# Altium schematic symbol library memory_sram.SchLib: 19 symbols
Pins are listed as number, name and electrical type; pins without a type are passive.

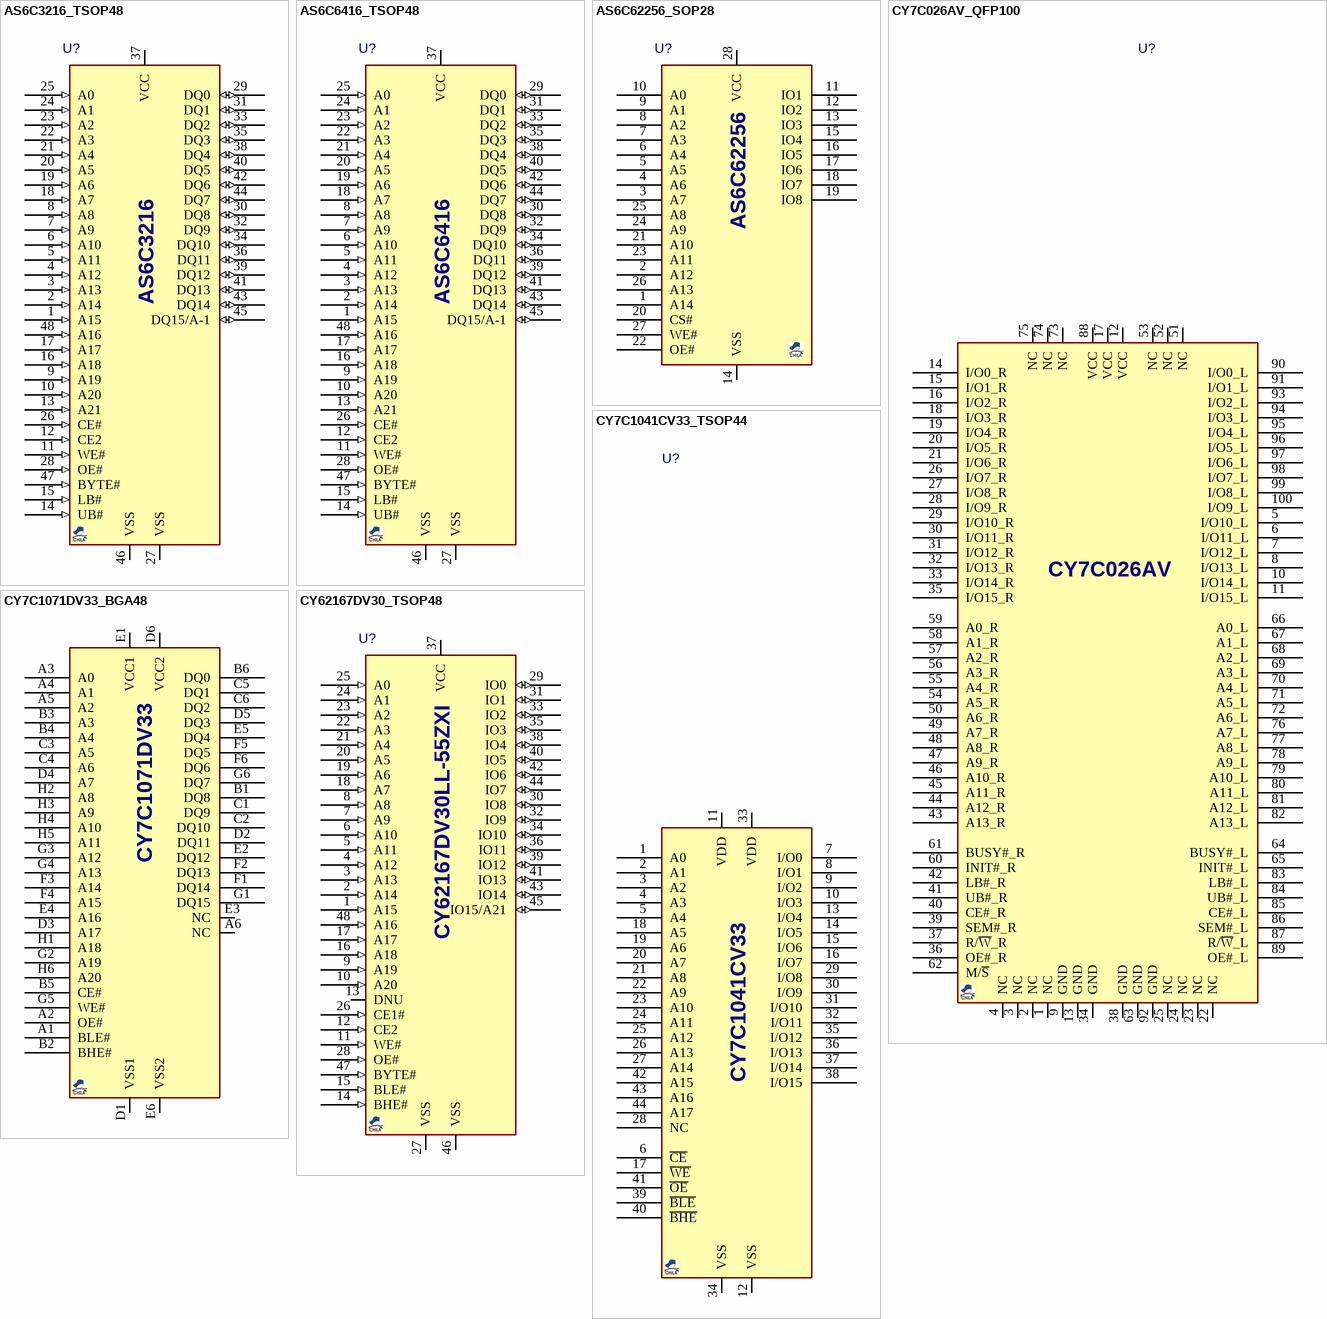
[diagram p0: symbols AS6C3216_TSOP48 to CY62167DV30_TSOP48]

## AS6C3216_TSOP48
designator U?, comment AS6C3216  (value not drawn)
SRAM, 32Mb  (2Mx16/4Mx8), 2.7~3.6V, 48-TSOP I; MANF: ISSI; MANF_P#: AS6C3216A-55TIN; PARAM: 32Mb (2Mx16/4Mx8), 55ns; PARAM2: 2.7~3.6V; PRICE: 30$; VALUE: AS6C3216; PACKAGE: TSOP-48
footprint SOG50_48_W
pins: 1 A15 (in) "Address Input", 2 A14 (in) "Address Input", 3 A13 (in) "Address Input", 4 A12 (in) "Address Input", 5 A11 (in) "Address Input", 6 A10 (in) "Address Input", 7 A9 (in) "Address Input", 8 A8 (in) "Address Input", 9 A19 (in) "Address Input", 10 A20 (in) "Address Input", 11 WE# (in) "Write Enable Input", 12 CE2 (in) "Chip Enable Input", 13 A21 (in) "Address Input", 14 UB# (in) "Upper-byte Control (DQ8-DQ15)", 15 LB# (in) "Lower-byte Control (DQ0-DQ7)", 16 A18 (in) "Address Input", 17 A17 (in) "Address Input", 18 A7 (in) "Address Input", 19 A6 (in) "Address Input", 20 A5 (in) "Address Input", 21 A4 (in) "Address Input", 22 A3 (in) "Address Input", 23 A2 (in) "Address Input", 24 A1 (in) "Address Input", 25 A0 (in) "Address Input", 26 CE# (in) "Chip Enable Input", 27 VSS "Address Input", 28 OE# (in) "Output Enable Input", 29 DQ0 (io) "DATA IO", 30 DQ8 (io) "DATA IO", 31 DQ1 (io) "DATA IO", 32 DQ9 (io) "DATA IO", 33 DQ2 (io) "DATA IO", 34 DQ10 (io) "DATA IO", 35 DQ3 (io) "DATA IO", 36 DQ11 (io) "DATA IO", 37 VCC "Address Input", 38 DQ4 (io) "DATA IO", 39 DQ12 (io) "DATA IO", 40 DQ5 (io) "DATA IO", 41 DQ13 (io) "DATA IO", 42 DQ6 (io) "DATA IO", 43 DQ14 (io) "DATA IO", 44 DQ7 (io) "DATA IO", 45 DQ15/A-1 (io) "DATA IO", 46 VSS "Address Input", 47 BYTE# (in) "Byte Enable", 48 A16 (in) "Address Input"

## AS6C6416_TSOP48
designator U?, comment AS6C6416  (value not drawn)
SRAM, 64Mb  (4Mx16/8Mx8), 2.7~3.6V, 48-TSOP I; MANF: ISSI; MANF_P#: AS6C6416-55TIN; PARAM: 64Mb  (4Mx16/8Mx8), 55ns; PARAM2: 2.7~3.6V; PRICE: 30$; VALUE: AS6C6416; PACKAGE: TSOP-48
footprint SOG50_48_W
pins: 1 A15 (in) "Address Input", 2 A14 (in) "Address Input", 3 A13 (in) "Address Input", 4 A12 (in) "Address Input", 5 A11 (in) "Address Input", 6 A10 (in) "Address Input", 7 A9 (in) "Address Input", 8 A8 (in) "Address Input", 9 A19 (in) "Address Input", 10 A20 (in) "Address Input", 11 WE# (in) "Write Enable Input", 12 CE2 (in) "Chip Enable Input", 13 A21 (in) "Address Input", 14 UB# (in) "Upper-byte Control (DQ8-DQ15)", 15 LB# (in) "Lower-byte Control (DQ0-DQ7)", 16 A18 (in) "Address Input", 17 A17 (in) "Address Input", 18 A7 (in) "Address Input", 19 A6 (in) "Address Input", 20 A5 (in) "Address Input", 21 A4 (in) "Address Input", 22 A3 (in) "Address Input", 23 A2 (in) "Address Input", 24 A1 (in) "Address Input", 25 A0 (in) "Address Input", 26 CE# (in) "Chip Enable Input", 27 VSS "Address Input", 28 OE# (in) "Output Enable Input", 29 DQ0 (io) "DATA IO", 30 DQ8 (io) "DATA IO", 31 DQ1 (io) "DATA IO", 32 DQ9 (io) "DATA IO", 33 DQ2 (io) "DATA IO", 34 DQ10 (io) "DATA IO", 35 DQ3 (io) "DATA IO", 36 DQ11 (io) "DATA IO", 37 VCC "Address Input", 38 DQ4 (io) "DATA IO", 39 DQ12 (io) "DATA IO", 40 DQ5 (io) "DATA IO", 41 DQ13 (io) "DATA IO", 42 DQ6 (io) "DATA IO", 43 DQ14 (io) "DATA IO", 44 DQ7 (io) "DATA IO", 45 DQ15/A-1 (io) "DATA IO", 46 VSS "Address Input", 47 BYTE# (in) "Byte Enable", 48 A16 (in) "Address Input"

## AS6C62256_SOP28
designator U?, comment AS6C62256  (value not drawn)
SRAM,256kb  (32k x 8); MANF: ISSI; MANF_P#: AS6C62256-55SCNT; PARAM2: 2.7~5.5V; PARAM: SRAM,256kb  (32k x 8); PRICE: 30$; VALUE: AS6C62256; PACKAGE: SOP-28W
footprint SO_28_W (SOP, SOIC, 7.5mm width, 1.27mm pitch,)
pins: 1 A14, 2 A12, 3 A7, 4 A6, 5 A5, 6 A4, 7 A3, 8 A2, 9 A1, 10 A0, 11 IO1, 12 IO2, 13 IO3, 14 VSS, 15 IO4, 16 IO5, 17 IO6, 18 IO7, 19 IO8, 20 CS#, 21 A10, 22 OE#, 23 A11, 24 A9, 25 A8, 26 A13, 27 WE#, 28 VCC

## CY7C026AV_QFP100
designator U?, comment CY7C026AV  (value not drawn)
SRAM, DUAL PORT, 256Kb (16Kb x16), Async, 25ns; MANF: Cypress; MANF_P#: CY7C026AV-25AXI; PARAM2: 3~3.6V; PARAM: 256Kb (16Kb x16), Async, 25ns; PRICE: 45$; PACKAGE: QFP-100; VALUE: CY7C026AV
footprint QFG50_100 (LQFP100, PQFP100, A100 (Cypress), TQ100/VQ100 (Xilinx), 14.0x14.0mm, Pitch 0.5mm, HT100, HTG100)
pins: 1 NC, 2 NC, 3 NC, 4 NC, 5 I/O10_L, 6 I/O11_L, 7 I/O12_L, 8 I/O13_L, 9 GND, 10 I/O14_L, 11 I/O15_L, 12 VCC, 13 GND, 14 I/O0_R, 15 I/O1_R, 16 I/O2_R, 17 VCC, 18 I/O3_R, 19 I/O4_R, 20 I/O5_R, 21 I/O6_R, 22 NC, 23 NC, 24 NC, 25 NC, 26 I/O7_R, 27 I/O8_R, 28 I/O9_R, 29 I/O10_R, 30 I/O11_R, 31 I/O12_R, 32 I/O13_R, 33 I/O14_R, 34 GND, 35 I/O15_R, 36 OE#_R, 37 R/~{W}_R, 38 GND, 39 SEM#_R, 40 CE#_R, 41 UB#_R, 42 LB#_R, 43 A13_R, 44 A12_R, 45 A11_R, 46 A10_R, 47 A9_R, 48 A8_R, 49 A7_R, 50 A6_R, 51 NC, 52 NC, 53 NC, 54 A5_R, 55 A4_R, 56 A3_R, 57 A2_R, 58 A1_R, 59 A0_R, 60 INIT#_R, 61 BUSY#_R, 62 M/~{S}, 63 GND, 64 BUSY#_L, 65 INIT#_L, 66 A0_L, 67 A1_L, 68 A2_L, 69 A3_L, 70 A4_L, 71 A5_L, 72 A6_L, 73 NC, 74 NC, 75 NC, 76 A7_L, 77 A8_L, 78 A9_L, 79 A10_L, 80 A11_L, 81 A12_L, 82 A13_L, 83 LB#_L, 84 UB#_L, 85 CE#_L, 86 SEM#_L, 87 R/~{W}_L, 88 VCC, 89 OE#_L, 90 I/O0_L, 91 I/O1_L, 92 GND, 93 I/O2_L, 94 I/O3_L, 95 I/O4_L, 96 I/O5_L, 97 I/O6_L, 98 I/O7_L, 99 I/O8_L, 100 I/O9_L

## CY7C1041CV33_TSOP44
designator U?, comment CY7C1041CV33  (value not drawn)
SRAM, 4Mb (256K x16), Async, 10ns, 3~3.6V, 44-TSOP II; MANF: Cypress; MANF_P#: CY7C1041DV33-10ZSXI; PACKAGE: TSOP-44; VALUE: CY7C1041CV33
footprint SOG80_44
pins: 1 A0, 2 A1, 3 A2, 4 A3, 5 A4, 6 ~{CE}, 7 I/O0, 8 I/O1, 9 I/O2, 10 I/O3, 11 VDD, 12 VSS, 13 I/O4, 14 I/O5, 15 I/O6, 16 I/O7, 17 ~{WE}, 18 A5, 19 A6, 20 A7, 21 A8, 22 A9, 23 A10, 24 A11, 25 A12, 26 A13, 27 A14, 28 NC, 29 I/O8, 30 I/O9, 31 I/O10, 32 I/O11, 33 VDD, 34 VSS, 35 I/O12, 36 I/O13, 37 I/O14, 38 I/O15, 39 ~{BLE}, 40 ~{BHE}, 41 ~{OE}, 42 A15, 43 A16, 44 A17

## CY7C1071DV33_BGA48
designator U?, comment CY7C1071DV33  (value not drawn)
SRAM, 32Mb (2M x16), Async, 12ns, 2.2~3.7V, 48-BALL; MANF: Cypress; MANF_P#: CY7C1071DV33-12BAXI; PARAM2: 2.2~3.7V; PARAM: 32Mb (2M x16), Async, 12ns; PRICE: 120$; PACKAGE: BGA-48; VALUE: CY7C1071DV33
footprint BGA75_48_9X11 (FBGA-48, 0.75mm pitch, 6X8, 8X9.5, 9X11)
pins: A1 BLE#, A2 OE#, A3 A0, A4 A1, A5 A2, A6 NC, B1 DQ8, B2 BHE#, B3 A3, B4 A4, B5 CE#, B6 DQ0, C1 DQ9, C2 DQ10, C3 A5, C4 A6, C5 DQ1, C6 DQ2, D1 VSS1, D2 DQ11, D3 A17, D4 A7, D5 DQ3, D6 VCC2, E1 VCC1, E2 DQ12, E3 NC, E4 A16, E5 DQ4, E6 VSS2, F1 DQ14, F2 DQ13, F3 A14, F4 A15, F5 DQ5, F6 DQ6, G1 DQ15, G2 A19, G3 A12, G4 A13, G5 WE#, G6 DQ7, H1 A18, H2 A8, H3 A9, H4 A10, H5 A11, H6 A20

## CY62167DV30_TSOP48
designator U?, comment CY62167DV30LL-55ZXI  (value not drawn)
SRAM, 32Mb (1M x16, 2Mx8), HiSpeed Async, 2.2~3.6V, 48-TSOP I; MANF: CYPRESS; PARAM2: 2.2~3.6V, -40~85°C; PARAM: 16Mb (1M x16, 2Mx8), 55ns; MANF_P#: CY62167DV30LL-55ZXI; PRICE: 20$; VALUE: CY62167DV30LL-55ZXI; PACKAGE: TSOP-48
footprint SOG50_48_W
pins: 1 A15 (in), 2 A14 (in), 3 A13 (in), 4 A12 (in), 5 A11 (in), 6 A10 (in), 7 A9 (in), 8 A8 (in), 9 A19 (in), 10 A20 (in), 11 WE# (in), 12 CE2 (in), 13 DNU, 14 BHE# (in), 15 BLE# (in), 16 A18 (in), 17 A17 (in), 18 A7 (in), 19 A6 (in), 20 A5 (in), 21 A4 (in), 22 A3 (in), 23 A2 (in), 24 A1 (in), 25 A0 (in), 26 CE1# (in), 27 VSS, 28 OE# (in), 29 IO0 (io), 30 IO8 (io), 31 IO1 (io), 32 IO9 (io), 33 IO2 (io), 34 IO10 (io), 35 IO3 (io), 36 IO11 (io), 37 VCC, 38 IO4 (io), 39 IO12 (io), 40 IO5 (io), 41 IO13 (io), 42 IO6 (io), 43 IO14 (io), 44 IO7 (io), 45 IO15/A21 (io), 46 VSS, 47 BYTE# (in), 48 A16 (in)

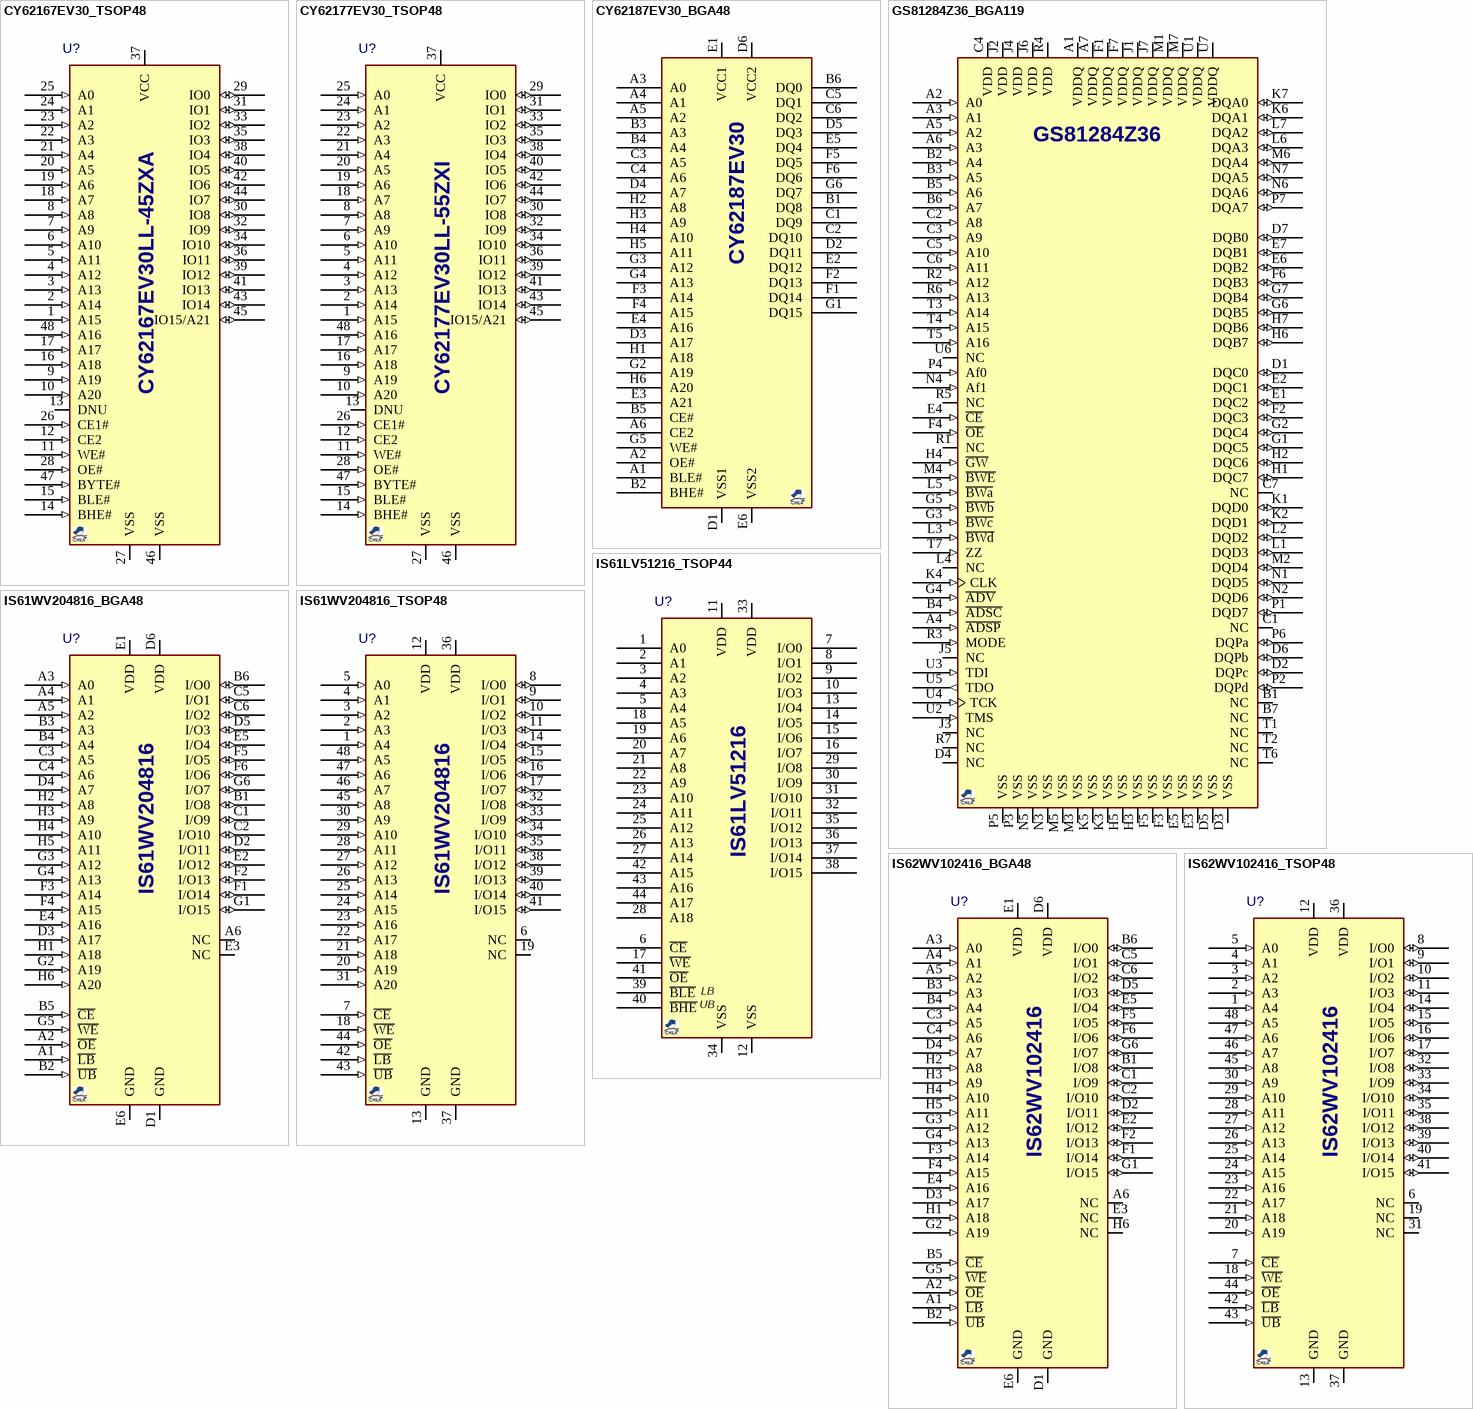
[diagram p1: symbols CY62167EV30_TSOP48 to IS62WV102416_TSOP48]

## CY62167EV30_TSOP48
designator U?, comment CY62167EV30  (value not drawn)
SRAM, 32Mb (1M x16, 2Mx8), HiSpeed Async, 2.2~3.6V, 48-TSOP I; MANF: CYPRESS; MANF_P#: CY62167EV30LL-45ZXI; PARAM2: 2.2~3.6V, -40~85°C; PARAM: 16Mb (1M x16, 2Mx8), 45ns; PRICE: 20$; VALUE: CY62167EV30; PACKAGE: TSOP-48
footprint SOG50_48_W
pins: 1 A15 (in), 2 A14 (in), 3 A13 (in), 4 A12 (in), 5 A11 (in), 6 A10 (in), 7 A9 (in), 8 A8 (in), 9 A19 (in), 10 A20 (in), 11 WE# (in), 12 CE2 (in), 13 DNU, 14 BHE# (in), 15 BLE# (in), 16 A18 (in), 17 A17 (in), 18 A7 (in), 19 A6 (in), 20 A5 (in), 21 A4 (in), 22 A3 (in), 23 A2 (in), 24 A1 (in), 25 A0 (in), 26 CE1# (in), 27 VSS, 28 OE# (in), 29 IO0 (io), 30 IO8 (io), 31 IO1 (io), 32 IO9 (io), 33 IO2 (io), 34 IO10 (io), 35 IO3 (io), 36 IO11 (io), 37 VCC, 38 IO4 (io), 39 IO12 (io), 40 IO5 (io), 41 IO13 (io), 42 IO6 (io), 43 IO14 (io), 44 IO7 (io), 45 IO15/A21 (io), 46 VSS, 47 BYTE# (in), 48 A16 (in)
text: CY62167EV30LL-45ZXA

## CY62177EV30_TSOP48
designator U?, comment CY62177EV30LL-55ZXI  (value not drawn)
SRAM, 32Mb (2M x16, 4Mx8), HiSpeed Async, 2.2~3.6V, 48-TSOP I; MANF: CYPRESS; PARAM2: 2.2~3.6V, -40~85°C; PARAM: 32Mb (2M x16, 4Mx8), 45ns; MANF_P#: CY62177EV30LL-55ZXI; PRICE: 60$; VALUE: CY62177EV30LL-55ZXI; PACKAGE: TSOP-48
footprint SOG50_48_W
pins: 1 A15 (in), 2 A14 (in), 3 A13 (in), 4 A12 (in), 5 A11 (in), 6 A10 (in), 7 A9 (in), 8 A8 (in), 9 A19 (in), 10 A20 (in), 11 WE# (in), 12 CE2 (in), 13 DNU, 14 BHE# (in), 15 BLE# (in), 16 A18 (in), 17 A17 (in), 18 A7 (in), 19 A6 (in), 20 A5 (in), 21 A4 (in), 22 A3 (in), 23 A2 (in), 24 A1 (in), 25 A0 (in), 26 CE1# (in), 27 VSS, 28 OE# (in), 29 IO0 (io), 30 IO8 (io), 31 IO1 (io), 32 IO9 (io), 33 IO2 (io), 34 IO10 (io), 35 IO3 (io), 36 IO11 (io), 37 VCC, 38 IO4 (io), 39 IO12 (io), 40 IO5 (io), 41 IO13 (io), 42 IO6 (io), 43 IO14 (io), 44 IO7 (io), 45 IO15/A21 (io), 46 VSS, 47 BYTE# (in), 48 A16 (in)

## CY62187EV30_BGA48
designator U?, comment CY62187EV30  (value not drawn)
SRAM, 64Mb (4M x16), Async, 55ns, 2.2~3.7V, 48-BALL; MANF: Cypress; MANF_P#: CY62187EV30LL-55BAXI; PARAM2: 2.2~3.7V; PARAM: 64Mb (4M x16), Async, 55ns; PRICE: 74$; PACKAGE: BGA-48; VALUE: CY62187EV30
footprint BGA75_48_9X11 (FBGA-48, 0.75mm pitch, 6X8, 8X9.5, 9X11)
pins: A1 BLE#, A2 OE#, A3 A0, A4 A1, A5 A2, A6 CE2, B1 DQ8, B2 BHE#, B3 A3, B4 A4, B5 CE#, B6 DQ0, C1 DQ9, C2 DQ10, C3 A5, C4 A6, C5 DQ1, C6 DQ2, D1 VSS1, D2 DQ11, D3 A17, D4 A7, D5 DQ3, D6 VCC2, E1 VCC1, E2 DQ12, E3 A21, E4 A16, E5 DQ4, E6 VSS2, F1 DQ14, F2 DQ13, F3 A14, F4 A15, F5 DQ5, F6 DQ6, G1 DQ15, G2 A19, G3 A12, G4 A13, G5 WE#, G6 DQ7, H1 A18, H2 A8, H3 A9, H4 A10, H5 A11, H6 A20

## GS81284Z36_BGA119
designator U?, comment GS81284Z36  (value not drawn)
SRAM, 144Mb (4M x36), Sync, 7.5ns, 1.8/2.5V, 119-BALL; MANF: GSI; MANF_P#: GS81284Z36GB-200IV; PARAM2: 1.8/2.5VCC, 1.8/2.5VIO, -40~85oC; PARAM: 144Mb (4M x36), Sync, 7.5ns, 200MHz; PRICE: 205$; VALUE: GS81284Z36; PACKAGE: BGA-119
footprint BGA127_119_14X22 (BGA, 119-Balls, Body 22x14mm, Pitch 1.27mm)
pins: A1 VDDQ (power) "Output Power Supply", A2 A0 (in) "Address input", A3 A1 (in) "Address input", A4 ~{ADSP} (in) "Address Status Processor", A5 A2 (in) "Address input", A6 A3 (in) "Address input", A7 VDDQ (power) "Output Power Supply", B1 NC "No Connect", B2 A4 (in) "Address input", B3 A5 (in) "Address input", B4 ~{ADSC} (in) "Address Status Controller", B5 A6 (in) "Address input", B6 A7 (in) "Address input", B7 NC "No Connect", C1 NC "No Connect", C2 A8 (in) "Address input", C3 A9 (in) "Address input", C4 VDD (power) "Power Supply", C5 A10 (in) "Address input", C6 A11 (in) "Address input", C7 NC "No Connect", D1 DQC0 (io) "Data Input/Output", D2 DQPc (io) "Parity Data Input/Output", D3 VSS (power) "Ground", D4 NC "No Connect", D5 VSS (power) "Ground", D6 DQPb (io) "Parity Data Input/Output", D7 DQB0 (io) "Data Input/Output", E1 DQC2 (io) "Data Input/Output", E2 DQC1 (io) "Data Input/Output", E3 VSS (power) "Ground", E4 ~{CE} (in) "Synchronous Chip Select", E5 VSS (power) "Ground", E6 DQB2 (io) "Data Input/Output", E7 DQB1 (io) "Data Input/Output", F1 VDDQ (power) "Output Power Supply", F2 DQC3 (io) "Data Input/Output", F3 VSS (power) "Ground", F4 ~{OE} (in) "Output Enable", F5 VSS (power) "Ground", F6 DQB3 (io) "Data Input/Output", F7 VDDQ (power) "Output Power Supply", G1 DQC5 (io) "Data Input/Output", G2 DQC4 (io) "Data Input/Output", G3 ~{BWc} (in) "Synchronous Byte Write Control", G4 ~{ADV} (in) "Synchronous Burst Address Advance.", G5 ~{BWb} (in) "Synchronous Byte Write Control", G6 DQB5 (io) "Data Input/Output", G7 DQB4 (io) "Data Input/Output", H1 DQC7 (io) "Data Input/Output", H2 DQC6 (io) "Data Input/Output", H3 VSS (power) "Ground", H4 ~{GW} (in) "Global Write Enable", H5 VSS (power) "Ground", H6 DQB7 (io) "Data Input/Output", H7 DQB6 (io) "Data Input/Output", J1 VDDQ (power) "Output Power Supply", J2 VDD (power) "Power Supply", J3 NC "No Connect", J4 VDD (power) "Power Supply", J5 NC "No Connect", J6 VDD (power) "Power Supply", J7 VDDQ (power) "Output Power Supply", K1 DQD0 (io) "Data Input/Output", K2 DQD1 (io) "Data Input/Output", K3 VSS (power) "Ground", K4 CLK (in) "Synchronous Clock", K5 VSS (power) "Ground", K6 DQA1 (io) "Data Input/Output", K7 DQA0 (io) "Data Input/Output", L1 DQD3 (io) "Data Input/Output", L2 DQD2 (io) "Data Input/Output", L3 ~{BWd} (in) "Synchronous Byte Write Control", L4 NC "No Connect", L5 ~{BWa} (in) "Synchronous Byte Write Control", L6 DQA3 (io) "Data Input/Output", L7 DQA2 (io) "Data Input/Output", M1 VDDQ (power) "Output Power Supply", M2 DQD4 (io) "Data Input/Output", M3 VSS (power) "Ground", M4 ~{BWE} (in) "Byte Write Enable", M5 VSS (power) "Ground", M6 DQA4 (io) "Data Input/Output", M7 VDDQ (power) "Output Power Supply", N1 DQD5 (io) "Data Input/Output", N2 DQD6 (io) "Data Input/Output", N3 VSS (power) "Ground", N4 Af1 (in) "Synchronous Burst Address Input", N5 VSS (power) "Ground", N6 DQA6 (io) "Data Input/Output", N7 DQA5 (io) "Data Input/Output", P1 DQD7 (io) "Data Input/Output", P2 DQPd (io) "Parity Data Input/Output", P3 VSS (power) "Ground", P4 Af0 (in) "Synchronous Burst Address Input", P5 VSS (power) "Ground", P6 DQPa (io) "Parity Data Input/Output", P7 DQA7 (io) "Data Input/Output", R1 NC "No Connect", R2 A12 (in) "Address input", R3 MODE (in) "Burst Sequence Selection", R4 VDD (power) "Power Supply", R5 NC "No Connect", R6 A13 (in) "Address input", R7 NC "No Connect", T1 NC "No Connect", T2 NC "No Connect", T3 A14 (in) "Address input", T4 A15 (in) "Address input", T5 A16 (in) "Address input", T6 NC "No Connect", T7 ZZ (in) "Power Sleep Mode", U1 VDDQ (power) "Output Power Supply", U2 TMS (in) "JTAG pin", U3 TDI (in) "JTAG pin", U4 TCK (in) "JTAG pin", U5 TDO (out) "JTAG pin", U6 NC "No Connect", U7 VDDQ (power) "Output Power Supply"

## IS61LV51216_TSOP44
designator U?, comment IS61LV51216  (value not drawn)
SRAM, 8M (512K x16), HiSpeed Async, 2.4~3.6V, 44-TSOP II; MANF: ISSI; MANF_P#: IS61WV51216EDBLL-10TLI; PARAM2: 2.4~3.6V; PARAM: 8M (512K x16); PRICE: 15$; PACKAGE: TSOP-44; VALUE: IS61LV51216
footprint SOG80_44
pins: 1 A0, 2 A1, 3 A2, 4 A3, 5 A4, 6 ~{CE}, 7 I/O0, 8 I/O1, 9 I/O2, 10 I/O3, 11 VDD, 12 VSS, 13 I/O4, 14 I/O5, 15 I/O6, 16 I/O7, 17 ~{WE}, 18 A5, 19 A6, 20 A7, 21 A8, 22 A9, 23 A10, 24 A11, 25 A12, 26 A13, 27 A14, 28 A18, 29 I/O8, 30 I/O9, 31 I/O10, 32 I/O11, 33 VDD, 34 VSS, 35 I/O12, 36 I/O13, 37 I/O14, 38 I/O15, 39 ~{BLE}, 40 ~{BHE}, 41 ~{OE}, 42 A15, 43 A16, 44 A17
text: LB; UB

## IS61WV204816_BGA48
designator U?, comment IS61WV204816  (value not drawn)
SRAM, 32Mb (2M x16), HiSpeed Async, 2.4~3.6V, BGA-48; MANF: ISSI; MANF_P#: IS61WV204816BLL-10BLI; PARAM: 32Mb (2M x16), 10ns; PARAM2: 2.4~3.6V; PRICE: 30$; PACKAGE: BGA-48; VALUE: IS61WV204816
footprint BGA75_48_9X11 (FBGA-48, 0.75mm pitch, 6X8, 8X9.5, 9X11)
pins: A1 ~{LB} (in) "Lower-byte Control (I/O0-I/O7)", A2 ~{OE} (in) "Output Enable Input", A3 A0 (in) "Address Input", A4 A1 (in) "Address Input", A5 A2 (in) "Address Input", A6 NC "No Connection", B1 I/O8 (io) "Data Inputs/Output", B2 ~{UB} (in) "Upper-byte Control (I/O8-I/O15)", B3 A3 (in) "Address Input", B4 A4 (in) "Address Input", B5 ~{CE} (in) "Chip Enable Input", B6 I/O0 (io) "Data Inputs/Output", C1 I/O9 (io) "Data Inputs/Output", C2 I/O10 (io) "Data Inputs/Output", C3 A5 (in) "Address Input", C4 A6 (in) "Address Input", C5 I/O1 (io) "Data Inputs/Output", C6 I/O2 (io) "Data Inputs/Output", D1 GND (power) "Ground", D2 I/O11 (io) "Data Inputs/Output", D3 A17 (in) "Address Input", D4 A7 (in) "Address Input", D5 I/O3 (io) "Data Inputs/Output", D6 VDD (power) "Power", E1 VDD (power) "Power", E2 I/O12 (io) "Data Inputs/Output", E3 NC "No Connection", E4 A16 (in) "Address Input", E5 I/O4 (io) "Data Inputs/Output", E6 GND (power) "Ground", F1 I/O14 (io) "Data Inputs/Output", F2 I/O13 (io) "Data Inputs/Output", F3 A14 (in) "Address Input", F4 A15 (in) "Address Input", F5 I/O5 (io) "Data Inputs/Output", F6 I/O6 (io) "Data Inputs/Output", G1 I/O15 (io) "Data Inputs/Output", G2 A19 (in) "Address Input", G3 A12 (in) "Address Input", G4 A13 (in) "Address Input", G5 ~{WE} (in) "Write Enable Input", G6 I/O7 (io) "Data Inputs/Output", H1 A18 (in) "Address Input", H2 A8 (in) "Address Input", H3 A9 (in) "Address Input", H4 A10 (in) "Address Input", H5 A11 (in) "Address Input", H6 A20 (in) "No Connection"

## IS61WV204816_TSOP48
designator U?, comment IS61WV204816  (value not drawn)
SRAM, 32Mb (2M x16), HiSpeed Async, 2.4~3.6V, 48-TSOP I; MANF: ISSI; MANF_P#: IS61WV204816BLL-10TLI; PARAM: 32Mb (2M x16), 10ns; PARAM2: 2.4~3.6V; PRICE: 30$; VALUE: IS61WV204816; PACKAGE: TSOP-48
footprint SOG50_48_W
pins: 1 A4 (in) "Address Input", 2 A3 (in) "Address Input", 3 A2 (in) "Address Input", 4 A1 (in) "Address Input", 5 A0 (in) "Address Input", 6 NC "No Connection", 7 ~{CE} (in) "Chip Enable Input", 8 I/O0 (io) "Data Input/Output", 9 I/O1 (io) "Data Input/Output", 10 I/O2 (io) "Data Input/Output", 11 I/O3 (io) "Data Input/Output", 12 VDD (power) "Power", 13 GND (power) "Ground", 14 I/O4 (io) "Data Input/Output", 15 I/O5 (io) "Data Input/Output", 16 I/O6 (io) "Data Input/Output", 17 I/O7 (io) "Data Input/Output", 18 ~{WE} (in) "Write Enable Input", 19 NC "No Connection", 20 A19 (in) "Address Input", 21 A18 (in) "Address Input", 22 A17 (in) "Address Input", 23 A16 (in) "Address Input", 24 A15 (in) "Address Input", 25 A14 (in) "Address Input", 26 A13 (in) "Address Input", 27 A12 (in) "Address Input", 28 A11 (in) "Address Input", 29 A10 (in) "Address Input", 30 A9 (in) "Address Input", 31 A20 (in) "No Connection", 32 I/O8 (io) "Data Input/Output", 33 I/O9 (io) "Data Input/Output", 34 I/O10 (io) "Data Input/Output", 35 I/O11 (io) "Data Input/Output", 36 VDD (power) "Power", 37 GND (power) "Ground", 38 I/O12 (io) "Data Input/Output", 39 I/O13 (io) "Data Input/Output", 40 I/O14 (io) "Data Input/Output", 41 I/O15 (io) "Data Input/Output", 42 ~{LB} (in) "Lower-byte Control (I/O0-I/O7)", 43 ~{UB} (in) "Upper-byte Control (I/O8-I/O15)", 44 ~{OE} (in) "Output Enable Input", 45 A8 (in) "Address Input", 46 A7 (in) "Address Input", 47 A6 (in) "Address Input", 48 A5 (in) "Address Input"

## IS62WV102416_BGA48
designator U?, comment IS62WV102416  (value not drawn)
SRAM, 16Mb (1M x16), HiSpeed Async, 2.4~3.6V, BGA-48; MANF: ISSI; MANF_P#: IS62WV102416DBLL-45TLI, IS62WV102416ALL-35TI; PARAM2: 2.2~3.6V; PARAM: 16Mb (1M x16); PRICE: 14$; PACKAGE: BGA-48; VALUE: IS62WV102416
footprint BGA75_48_9X11 (FBGA-48, 0.75mm pitch, 6X8, 8X9.5, 9X11)
pins: A1 ~{LB} (in) "Lower-byte Control (I/O0-I/O7)", A2 ~{OE} (in) "Output Enable Input", A3 A0 (in) "Address Input", A4 A1 (in) "Address Input", A5 A2 (in) "Address Input", A6 NC "No Connection", B1 I/O8 (io) "Data Inputs/Output", B2 ~{UB} (in) "Upper-byte Control (I/O8-I/O15)", B3 A3 (in) "Address Input", B4 A4 (in) "Address Input", B5 ~{CE} (in) "Chip Enable Input", B6 I/O0 (io) "Data Inputs/Output", C1 I/O9 (io) "Data Inputs/Output", C2 I/O10 (io) "Data Inputs/Output", C3 A5 (in) "Address Input", C4 A6 (in) "Address Input", C5 I/O1 (io) "Data Inputs/Output", C6 I/O2 (io) "Data Inputs/Output", D1 GND (power) "Ground", D2 I/O11 (io) "Data Inputs/Output", D3 A17 (in) "Address Input", D4 A7 (in) "Address Input", D5 I/O3 (io) "Data Inputs/Output", D6 VDD (power) "Power", E1 VDD (power) "Power", E2 I/O12 (io) "Data Inputs/Output", E3 NC "No Connection", E4 A16 (in) "Address Input", E5 I/O4 (io) "Data Inputs/Output", E6 GND (power) "Ground", F1 I/O14 (io) "Data Inputs/Output", F2 I/O13 (io) "Data Inputs/Output", F3 A14 (in) "Address Input", F4 A15 (in) "Address Input", F5 I/O5 (io) "Data Inputs/Output", F6 I/O6 (io) "Data Inputs/Output", G1 I/O15 (io) "Data Inputs/Output", G2 A19 (in) "Address Input", G3 A12 (in) "Address Input", G4 A13 (in) "Address Input", G5 ~{WE} (in) "Write Enable Input", G6 I/O7 (io) "Data Inputs/Output", H1 A18 (in) "Address Input", H2 A8 (in) "Address Input", H3 A9 (in) "Address Input", H4 A10 (in) "Address Input", H5 A11 (in) "Address Input", H6 NC "No Connection"

## IS62WV102416_TSOP48
designator U?, comment IS62WV102416  (value not drawn)
SRAM, 16Mb (1M x16), HiSpeed Async, 2.4~3.6V, 48-TSOP I; MANF: ISSI; MANF_P#: IS62WV102416DBLL-45TLI, IS62WV102416ALL-35TI; PARAM2: 2.2~3.6V; PARAM: 16Mb (1M x16); PRICE: 14$; VALUE: IS62WV102416; PACKAGE: TSOP-48
footprint SOG50_48_W
pins: 1 A4 (in) "Address Input", 2 A3 (in) "Address Input", 3 A2 (in) "Address Input", 4 A1 (in) "Address Input", 5 A0 (in) "Address Input", 6 NC "No Connection", 7 ~{CE} (in) "Chip Enable Input", 8 I/O0 (io) "Data Input/Output", 9 I/O1 (io) "Data Input/Output", 10 I/O2 (io) "Data Input/Output", 11 I/O3 (io) "Data Input/Output", 12 VDD (power) "Power", 13 GND (power) "Ground", 14 I/O4 (io) "Data Input/Output", 15 I/O5 (io) "Data Input/Output", 16 I/O6 (io) "Data Input/Output", 17 I/O7 (io) "Data Input/Output", 18 ~{WE} (in) "Write Enable Input", 19 NC "No Connection", 20 A19 (in) "Address Input", 21 A18 (in) "Address Input", 22 A17 (in) "Address Input", 23 A16 (in) "Address Input", 24 A15 (in) "Address Input", 25 A14 (in) "Address Input", 26 A13 (in) "Address Input", 27 A12 (in) "Address Input", 28 A11 (in) "Address Input", 29 A10 (in) "Address Input", 30 A9 (in) "Address Input", 31 NC "No Connection", 32 I/O8 (io) "Data Input/Output", 33 I/O9 (io) "Data Input/Output", 34 I/O10 (io) "Data Input/Output", 35 I/O11 (io) "Data Input/Output", 36 VDD (power) "Power", 37 GND (power) "Ground", 38 I/O12 (io) "Data Input/Output", 39 I/O13 (io) "Data Input/Output", 40 I/O14 (io) "Data Input/Output", 41 I/O15 (io) "Data Input/Output", 42 ~{LB} (in) "Lower-byte Control (I/O0-I/O7)", 43 ~{UB} (in) "Upper-byte Control (I/O8-I/O15)", 44 ~{OE} (in) "Output Enable Input", 45 A8 (in) "Address Input", 46 A7 (in) "Address Input", 47 A6 (in) "Address Input", 48 A5 (in) "Address Input"

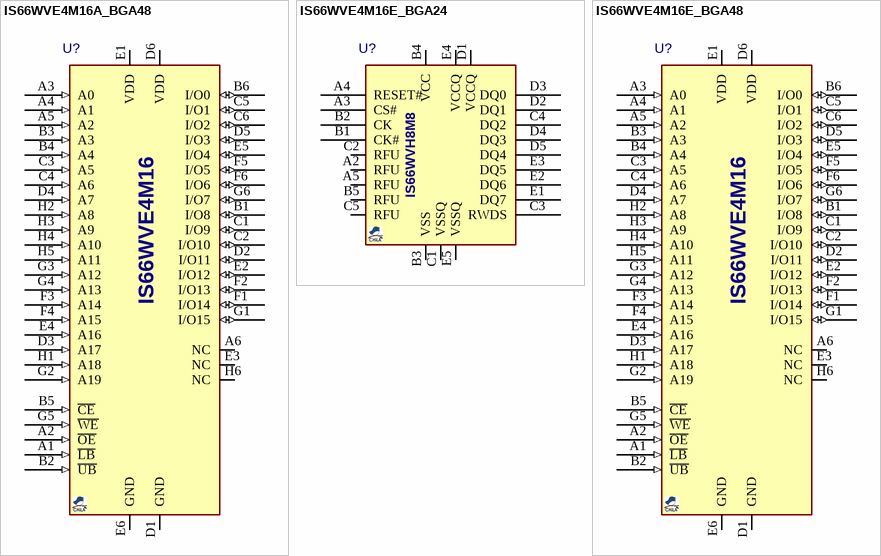
[diagram p2: symbols IS66WVE4M16A_BGA48 to IS66WVE4M16E_BGA48]

## IS66WVE4M16A_BGA48
designator U?, comment IS66WVE4M16  (value not drawn)
SRAM, 64Mb (4M x16), Async, 1.8V, BGA-48; MANF: ISSI; MANF_P#: IS66WVE4M16ALL; PARAM2: 1.8VCC, 1.8VIO, -40~85oC; PARAM: 64Mb (4M x16); PRICE: Obselote; PACKAGE: BGA-48; VALUE: IS66WVE4M16
footprint BGA75_48_9X11 (FBGA-48, 0.75mm pitch, 6X8, 8X9.5, 9X11)
pins: A1 ~{LB} (in) "Lower-byte Control (I/O0-I/O7)", A2 ~{OE} (in) "Output Enable Input", A3 A0 (in) "Address Input", A4 A1 (in) "Address Input", A5 A2 (in) "Address Input", A6 NC "No Connection", B1 I/O8 (io) "Data Inputs/Output", B2 ~{UB} (in) "Upper-byte Control (I/O8-I/O15)", B3 A3 (in) "Address Input", B4 A4 (in) "Address Input", B5 ~{CE} (in) "Chip Enable Input", B6 I/O0 (io) "Data Inputs/Output", C1 I/O9 (io) "Data Inputs/Output", C2 I/O10 (io) "Data Inputs/Output", C3 A5 (in) "Address Input", C4 A6 (in) "Address Input", C5 I/O1 (io) "Data Inputs/Output", C6 I/O2 (io) "Data Inputs/Output", D1 GND (power) "Ground", D2 I/O11 (io) "Data Inputs/Output", D3 A17 (in) "Address Input", D4 A7 (in) "Address Input", D5 I/O3 (io) "Data Inputs/Output", D6 VDD (power) "Power", E1 VDD (power) "Power", E2 I/O12 (io) "Data Inputs/Output", E3 NC "No Connection", E4 A16 (in) "Address Input", E5 I/O4 (io) "Data Inputs/Output", E6 GND (power) "Ground", F1 I/O14 (io) "Data Inputs/Output", F2 I/O13 (io) "Data Inputs/Output", F3 A14 (in) "Address Input", F4 A15 (in) "Address Input", F5 I/O5 (io) "Data Inputs/Output", F6 I/O6 (io) "Data Inputs/Output", G1 I/O15 (io) "Data Inputs/Output", G2 A19 (in) "Address Input", G3 A12 (in) "Address Input", G4 A13 (in) "Address Input", G5 ~{WE} (in) "Write Enable Input", G6 I/O7 (io) "Data Inputs/Output", H1 A18 (in) "Address Input", H2 A8 (in) "Address Input", H3 A9 (in) "Address Input", H4 A10 (in) "Address Input", H5 A11 (in) "Address Input", H6 NC "No Connection"

## IS66WVE4M16E_BGA24
designator U?, comment IS66WVH8M8  (value not drawn)
SRAM, 64Mb (8M x8), DDR, 1.8V, BGA-24; MANF: ISSI; MANF_P#: IS66WVH8M8ALL-166B1LI; PARAM2: 1.8V, -40~85oC; PARAM: 64Mb (4M x16), 36ns, 333Mb/s; PRICE: 4.5$; PACKAGE: BGA-24; VALUE: IS66WVH8M8
footprint BGA100_24_6X8 (TFBGA, 1mm pitch, 6X8mm, 5X5=24-Ball)
pins: A2 RFU "Address Input", A3 CS# "Address Input", A4 RESET# "Address Input", A5 RFU "Address Input", B1 CK# "Address Input", B2 CK "Address Input", B3 VSS "Address Input", B4 VCC "Address Input", B5 RFU "Address Input", C1 VSSQ "Address Input", C2 RFU "Address Input", C3 RWDS "Address Input", C4 DQ2 "Address Input", C5 RFU "Address Input", D1 VCCQ "Address Input", D2 DQ1 "Address Input", D3 DQ0 "Address Input", D4 DQ3 "Address Input", D5 DQ4 "Address Input", E1 DQ7 "Address Input", E2 DQ6 "Chip Enable Input", E3 DQ5 "Write Enable Input", E4 VCCQ "Address Input", E5 VSSQ "Address Input"

## IS66WVE4M16E_BGA48
designator U?, comment IS66WVE4M16  (value not drawn)
SRAM, 64Mb (4M x16), Async, 3.3V, BGA-48; MANF: ISSI; MANF_P#: IS66WVE4M16EBLL-70BLI; PARAM2: 2.7~3.6V, -40~85oC; PARAM: 64Mb (4M x16), 70ns; PRICE: 4.5$; PACKAGE: BGA-48; VALUE: IS66WVE4M16
footprint BGA75_48_9X11 (FBGA-48, 0.75mm pitch, 6X8, 8X9.5, 9X11)
pins: A1 ~{LB} (in) "Lower-byte Control (I/O0-I/O7)", A2 ~{OE} (in) "Output Enable Input", A3 A0 (in) "Address Input", A4 A1 (in) "Address Input", A5 A2 (in) "Address Input", A6 NC "No Connection", B1 I/O8 (io) "Data Inputs/Output", B2 ~{UB} (in) "Upper-byte Control (I/O8-I/O15)", B3 A3 (in) "Address Input", B4 A4 (in) "Address Input", B5 ~{CE} (in) "Chip Enable Input", B6 I/O0 (io) "Data Inputs/Output", C1 I/O9 (io) "Data Inputs/Output", C2 I/O10 (io) "Data Inputs/Output", C3 A5 (in) "Address Input", C4 A6 (in) "Address Input", C5 I/O1 (io) "Data Inputs/Output", C6 I/O2 (io) "Data Inputs/Output", D1 GND (power) "Ground", D2 I/O11 (io) "Data Inputs/Output", D3 A17 (in) "Address Input", D4 A7 (in) "Address Input", D5 I/O3 (io) "Data Inputs/Output", D6 VDD (power) "Power", E1 VDD (power) "Power", E2 I/O12 (io) "Data Inputs/Output", E3 NC "No Connection", E4 A16 (in) "Address Input", E5 I/O4 (io) "Data Inputs/Output", E6 GND (power) "Ground", F1 I/O14 (io) "Data Inputs/Output", F2 I/O13 (io) "Data Inputs/Output", F3 A14 (in) "Address Input", F4 A15 (in) "Address Input", F5 I/O5 (io) "Data Inputs/Output", F6 I/O6 (io) "Data Inputs/Output", G1 I/O15 (io) "Data Inputs/Output", G2 A19 (in) "Address Input", G3 A12 (in) "Address Input", G4 A13 (in) "Address Input", G5 ~{WE} (in) "Write Enable Input", G6 I/O7 (io) "Data Inputs/Output", H1 A18 (in) "Address Input", H2 A8 (in) "Address Input", H3 A9 (in) "Address Input", H4 A10 (in) "Address Input", H5 A11 (in) "Address Input", H6 NC "No Connection"